# EAGLE library part OSL641501-AXX (library akizuki)
OSL641501-Axx 8x8 dot matrix LED AKIZUKI DENSHI : I-05738
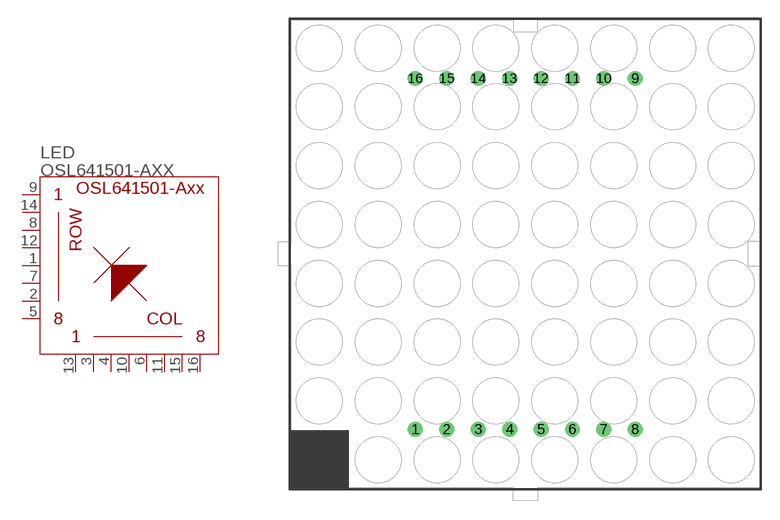
[diagram p0: symbol with the pads of OSL641501-XXX; footprint OSL641501-XXX]

Designator prefix LED

## OSL641501-AXX  [OSL641501-XXX]
1  R5
2  R7
3  C2
4  C3
5  R8
6  C5
7  R6
8  R3
9  R1
10  C4
11  C6
12  R4
13  C1
14  R2
15  C7
16  C8

## Footprint OSL641501-XXX (pad centres in mm)
OSL641501-Axx 8x8 dot matrix LED AKIZUKI DENSHI : I-05738
drill 0.7: 1 -8.89,-14.2; 2 -6.35,-14.2; 3 -3.81,-14.2; 4 -1.27,-14.2; 5 1.27,-14.2; 6 3.81,-14.2; 7 6.35,-14.2; 8 8.89,-14.2; 9 8.89,14.2; 10 6.35,14.2; 11 3.81,14.2; 12 1.27,14.2; 13 -1.27,14.2; 14 -3.81,14.2; 15 -6.35,14.2; 16 -8.89,14.2